# Altium integrated library D-SUB-Filter, Solder Pin Straight.IntLib: 8 symbols
Pins are listed as number, name and electrical type; pins without a type are passive.

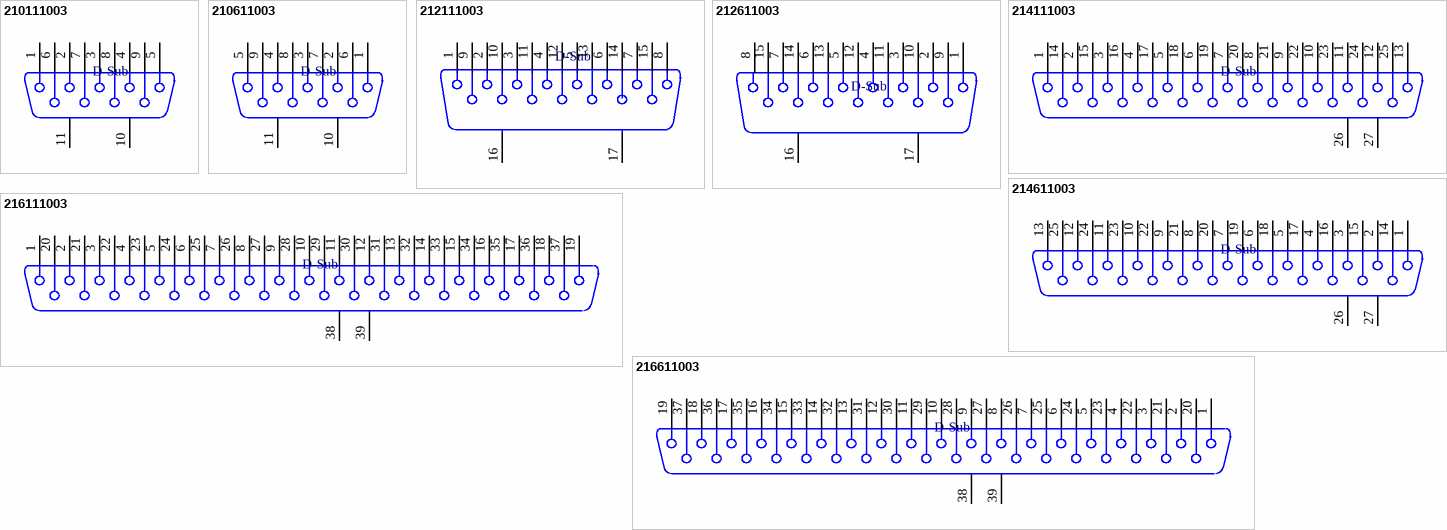
[diagram p0: symbols 210111003 to 216611003]

## 210111003
designator D-Sub
D-SUB-Filter Connectors WE-DS, Solder Pin Straight; PartNumber: 210111003; PackageReference: WE-DS, 210111003; ComponentLink1Description: Manufacturer URL; ComponentLink1URL: http://www.we-online.com; ComponentLink2Description: Datasheet; ComponentLink2URL: http://katalog.we-online.de/kataloge/eisos/index.php?language=en&pf=Filter_gerade
footprint WE-DS, 210111003 (D-SUB- 9P, MALE, STRAIGHT, TH)
pins: 1, 2, 3, 4, 5, 6, 7, 8, 9, 10 MH1, 11 MH2

## 210611003
designator D-Sub
D-SUB-Filter Connectors WE-DS, Solder Pin Straight; PartNumber: 210611003; PackageReference: WE-DS, 210611003; ComponentLink1Description: Manufacturer URL; ComponentLink1URL: http://www.we-online.com; ComponentLink2Description: Datasheet; ComponentLink2URL: http://katalog.we-online.de/kataloge/eisos/index.php?language=en&pf=Filter_gerade
footprint WE-DS, 210611003 (D-SUB- 9P, FEMALE, STRAIGHT, TH)
pins: 1, 2, 3, 4, 5, 6, 7, 8, 9, 10 MH1, 11 MH2

## 212111003
designator D-Sub
D-SUB-Filter Connectors WE-DS, Solder Pin Straight; PartNumber: 212111003; PackageReference: WE-DS, 212111003; ComponentLink1Description: Manufacturer URL; ComponentLink1URL: http://www.we-online.com; ComponentLink2Description: Datasheet; ComponentLink2URL: http://katalog.we-online.de/kataloge/eisos/index.php?language=en&pf=Filter_gerade
footprint WE-DS, 212111003 (D-SUB- 15P, MALE, STRAIGHT, TH)
pins: 1, 2, 3, 4, 5, 6, 7, 8, 9, 10, 11, 12, 13, 14, 15, 16 MH1, 17 MH2

## 212611003
designator D-Sub
D-SUB-Filter Connectors WE-DS, Solder Pin Straight; PartNumber: 212611003; PackageReference: WE-DS, 212611003; ComponentLink1Description: Manufacturer URL; ComponentLink1URL: http://www.we-online.com; ComponentLink2Description: Datasheet; ComponentLink2URL: http://katalog.we-online.de/kataloge/eisos/index.php?language=en&pf=Filter_gerade
footprint WE-DS, 212611003 (D-SUB- 15P, FEMALE, STRAIGHT, TH)
pins: 1, 2, 3, 4, 5, 6, 7, 8, 9, 10, 11, 12, 13, 14, 15, 16 MH1, 17 MH2

## 214111003
designator D-Sub
D-SUB-Filter Connectors WE-DS, Solder Pin Straight; PartNumber: 214111003; PackageReference: WE-DS, 214111003; ComponentLink1Description: Manufacturer URL; ComponentLink1URL: http://www.we-online.com; ComponentLink2Description: Datasheet; ComponentLink2URL: http://katalog.we-online.de/kataloge/eisos/index.php?language=en&pf=Filter_gerade
footprint WE-DS, 214111003 (D-SUB- 25P, MALE, STRAIGHT, TH)
pins: 1, 2, 3, 4, 5, 6, 7, 8, 9, 10, 11, 12, 13, 14, 15, 16, 17, 18, 19, 20, 21, 22, 23, 24, 25, 26 MH1, 27 MH2

## 214611003
designator D-Sub
D-SUB-Filter Connectors WE-DS, Solder Pin Straight; PartNumber: 214611003; PackageReference: WE-DS, 214611003; ComponentLink1Description: Manufacturer URL; ComponentLink1URL: http://www.we-online.com; ComponentLink2Description: Datasheet; ComponentLink2URL: http://katalog.we-online.de/kataloge/eisos/index.php?language=en&pf=Filter_gerade
footprint WE-DS, 214611003 (D-SUB- 25P, FEMALE, STRAIGHT, TH)
pins: 1, 2, 3, 4, 5, 6, 7, 8, 9, 10, 11, 12, 13, 14, 15, 16, 17, 18, 19, 20, 21, 22, 23, 24, 25, 26 MH1, 27 MH2

## 216111003
designator D-Sub
D-SUB-Filter Connectors WE-DS, Solder Pin Straight; PartNumber: 216111003; PackageReference: WE-DS, 216111003; ComponentLink1Description: Manufacturer URL; ComponentLink1URL: http://www.we-online.com; ComponentLink2Description: Datasheet; ComponentLink2URL: http://katalog.we-online.de/kataloge/eisos/index.php?language=en&pf=Filter_gerade
footprint WE-DS, 216111003 (D-SUB- 37P, MALE, STRAIGHT, TH)
pins: 1, 2, 3, 4, 5, 6, 7, 8, 9, 10, 11, 12, 13, 14, 15, 16, 17, 18, 19, 20, 21, 22, 23, 24, 25, 26, 27, 28, 29, 30, 31, 32, 33, 34, 35, 36, 37, 38 MH1, 39 MH2

## 216611003
designator D-Sub
D-SUB-Filter Connectors WE-DS, Solder Pin Straight; PartNumber: 216611003; PackageReference: WE-DS, 216611003; ComponentLink1Description: Manufacturer URL; ComponentLink1URL: http://www.we-online.com; ComponentLink2Description: Datasheet; ComponentLink2URL: http://katalog.we-online.de/kataloge/eisos/index.php?language=en&pf=Filter_gerade
footprint WE-DS, 216611003 (D-SUB- 37P, FEMALE, STRAIGHT, TH)
pins: 1, 2, 3, 4, 5, 6, 7, 8, 9, 10, 11, 12, 13, 14, 15, 16, 17, 18, 19, 20, 21, 22, 23, 24, 25, 26, 27, 28, 29, 30, 31, 32, 33, 34, 35, 36, 37, 38 MH1, 39 MH2